# Altium footprint library D6C90F1LFS.PCBLIB: 1 footprints
Each footprint in its own frame and in the unit in brackets; x right, y up, seen from the top. Pads: shape width x height; smd on the part's side, far side on the other; paste and mask are expansions set on the pad; w line width, h text height; cw(c..) or ccw(c..) is an arc to the next point about the centre after c.
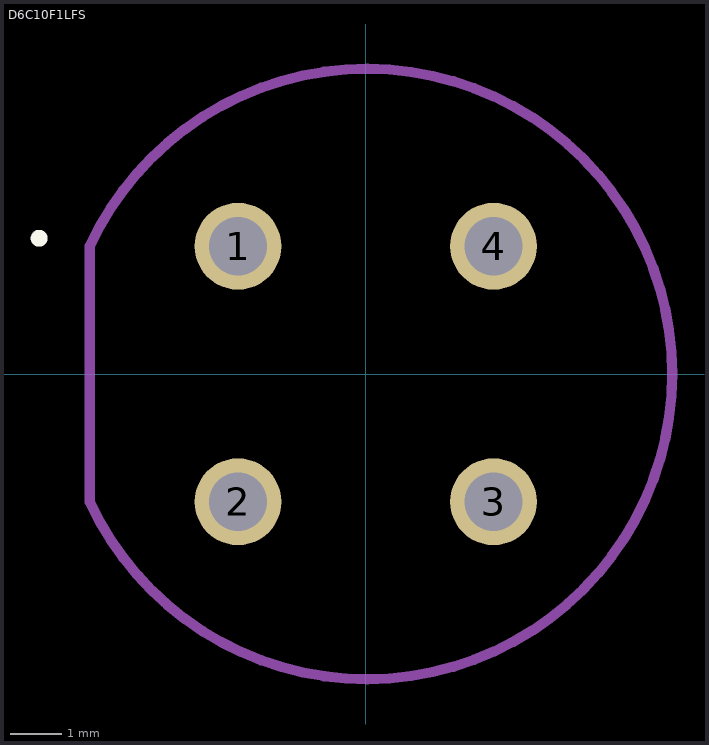
[diagram p0: the footprint, top view; thin cyan lines are the x and y axes]

## D6C10F1LFS [mm]
pads (4):
  round 1.7 / inner round 1.524 / far side round 1.7 hole 1.14: 1(-2.5,2.5) 2(-2.5,-2.5) 3(2.5,-2.5) 4(2.5,2.5)
Top Overlay:
  circle w0.2: c-6.391,2.656 r0.066
Mechanical 8:
  lines w0.2: -5.4,-2.5 ccw(c0.023,0) -5.4,2.5 -5.4,-2.5
Mechanical 22:
  lines w0.2: -5.4,-2.5 ccw(c0.023,0) -5.4,2.5 -5.4,-2.5